# EAGLE library part BA6229 (library ic)
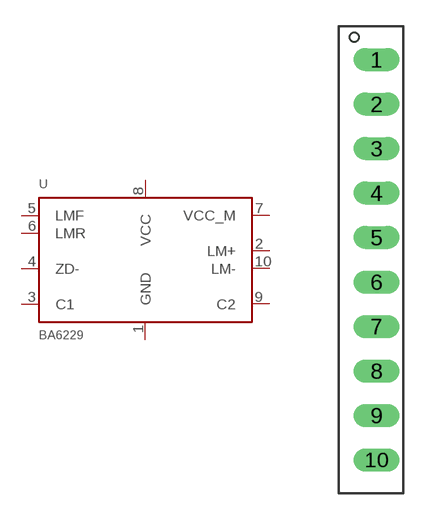
[diagram p19: symbol with the pads of SIP10; footprint SIP10]

Designator prefix -

## BA6229  [SIP10]
1  GND
2  LM+
3  C1
4  ZD-
5  LMF
6  LMR
7  VCC_M
8  VCC
9  C2
10  LM-

## Footprint SIP10 (pad centres in mm)
drill 0.8 pad 1.27 long: 1 0,11.43; 2 0,8.89; 3 0,6.35; 4 0,3.81; 5 0,1.27; 6 0,-1.27; 7 0,-3.81; 8 0,-6.35; 9 0,-8.89; 10 0,-11.43